# Altium footprint library SparkFun-Resistors.PCBLIB: 38 footprints (part 2 of 3)
Each footprint in its own frame and in the unit in brackets; x right, y up, seen from the top. Pads: shape width x height; smd on the part's side, far side on the other; paste and mask are expansions set on the pad; w line width, h text height; cw(c..) or ccw(c..) is an arc to the next point about the centre after c.
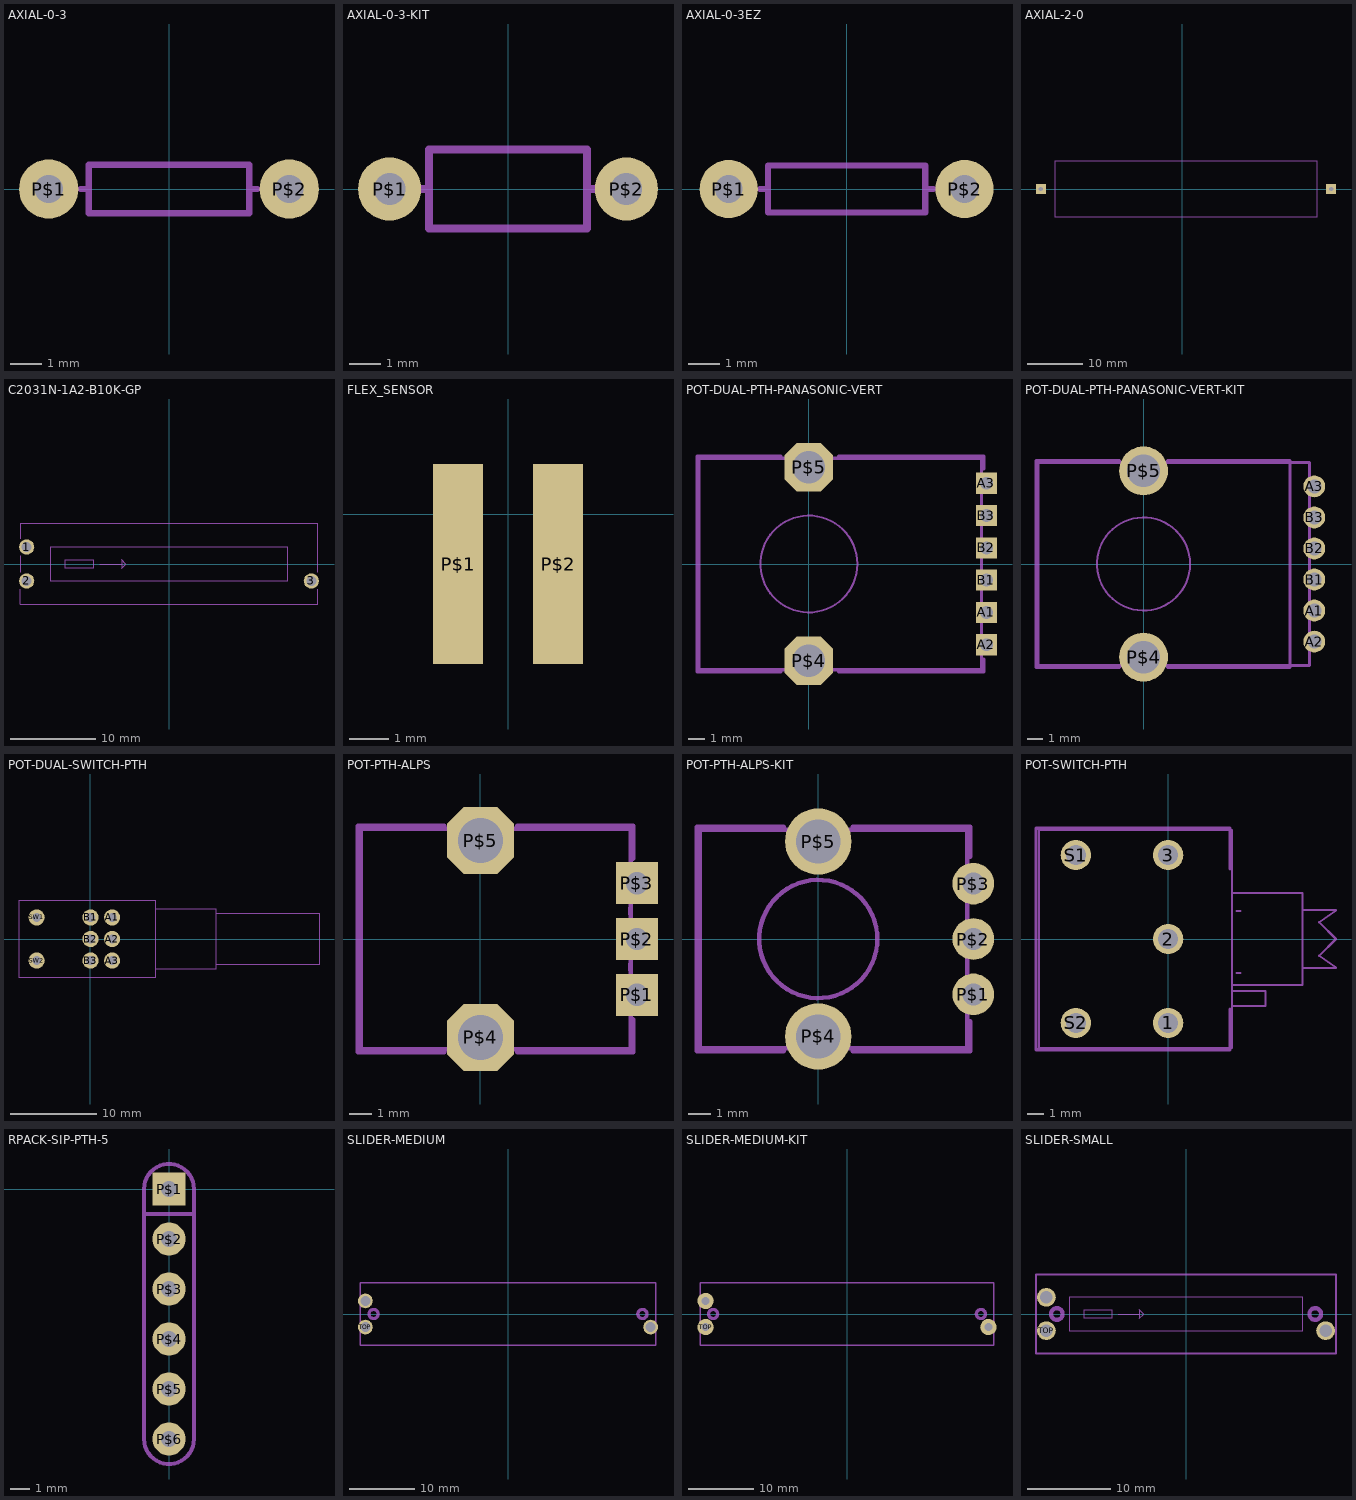
[diagram p1: the footprints below, top view; thin cyan lines are the x and y axes]

## AXIAL-0-3 [mil]
pads (2):
  round 74 hole 35.43: P$1(-150,0) P$2(150,0)
tPlace:
  lines w8: -110,0 -100,0 ; 110,0 100,0 ; -100,0 -100,-30 100,-30 100,0 ; -100,0 -100,30 100,30 100,0

## AXIAL-0-3-KIT [mil]
pads (2):
  round 80 hole 40: P$1(-150,0) P$2(150,0)
Top Solder:
  region: 150.3,-17.2 146.9,-17.28 140.55,-14.82 135.63,-10.13 132.88,-3.9 132.8,-0.5 132.71,3.07 135.28,9.74 140.2,14.91 146.73,17.81 150.3,17.9 153.82,17.84 160.28,15.04 165.18,9.97 167.76,3.42 167.7,-0.1 167.67,-3.53 164.99,-9.85 160.09,-14.66 153.73,-17.23 150.3,-17.2
  region: -150,-17.5 -153.4,-17.58 -159.75,-15.12 -164.67,-10.43 -167.42,-4.2 -167.5,-0.8 -167.59,2.77 -165.02,9.44 -160.1,14.61 -153.57,17.51 -150,17.6 -146.48,17.54 -140.02,14.74 -135.12,9.67 -132.54,3.12 -132.6,-0.4 -132.63,-3.83 -135.31,-10.15 -140.21,-14.96 -146.57,-17.53 -150,-17.5
Bottom Solder:
  region: 150.4,-37.2 146.75,-37.25 139.56,-35.92 132.77,-33.21 126.64,-29.24 121.4,-24.14 117.26,-18.12 114.37,-11.4 112.85,-4.25 112.8,-0.6 112.76,3.14 114.13,10.49 116.9,17.43 120.98,23.69 126.21,29.04 132.37,33.27 139.25,36.21 146.56,37.76 150.3,37.8 154.04,37.75 161.35,36.18 168.21,33.22 174.37,28.98 179.58,23.61 183.64,17.34 186.4,10.39 187.75,3.04 187.7,-0.7 187.66,-4.33 186.17,-11.45 183.31,-18.13 179.21,-24.14 174.01,-29.22 167.93,-33.19 161.18,-35.9 154.03,-37.24 150.4,-37.2
  region: -149.9,-37.5 -153.55,-37.55 -160.74,-36.22 -167.53,-33.51 -173.66,-29.54 -178.9,-24.44 -183.04,-18.42 -185.93,-11.7 -187.45,-4.55 -187.5,-0.9 -187.54,2.84 -186.17,10.19 -183.4,17.13 -179.32,23.39 -174.09,28.74 -167.93,32.97 -161.05,35.91 -153.74,37.46 -150,37.5 -146.26,37.45 -138.95,35.88 -132.09,32.92 -125.93,28.68 -120.72,23.31 -116.66,17.04 -113.9,10.09 -112.55,2.74 -112.6,-1 -112.64,-4.63 -114.13,-11.75 -116.99,-18.43 -121.09,-24.44 -126.29,-29.52 -132.37,-33.49 -139.12,-36.2 -146.27,-37.54 -149.9,-37.5
tPlace:
  lines w10: -110,0 -100,0 ; 110,0 100,0 ; -100,0 -100,-50 100,-50 100,0 ; -100,0 -100,50 100,50 100,0

## AXIAL-0-3EZ [mil]
pads (2):
  round 74 hole 35.43: P$1(-150,0) P$2(150,0)
Top Solder:
  circle w0: c-150,0 r20
  circle w0: c150,0 r20.62
Bottom Solder:
  circle w0: c-150,0 r40.31
  circle w0: c150,0 r41.23
tPlace:
  lines w8: -110,0 -100,0 ; 110,0 100,0 ; -100,0 -100,-30 100,-30 100,0 ; -100,0 -100,30 100,30 100,0

## AXIAL-2-0 [mil]
pads (2):
  rect 70x70 / inner round 64.67 / far side rect 70x70 hole 31.5: P$1(-1000,0) P$2(1050,0)
tPlace:
  lines w5: -900,-200 -900,200 950,200 950,-200 -900,-200

## C2031N-1A2-B10K-GP [mm]
pads (3):
  round 1.8 hole 1.2: 1(-16.75,2) 2(-16.75,-2) 3(16.75,-2)
tPlace:
  lines w0.127: -17.5,-3 -17.5,-4.75 17.5,-4.75 17.5,-3 ; -17.5,-1 -17.5,1 ; -17.5,3 -17.5,4.75 17.5,4.75 17.5,-1 ; -14,-2 -14,2 14,2 14,-2 -14,-2
Document:
  lines w0.127: -8.128,0 -5.588,0 ; -5.588,0 -5.588,-0.508 -5.08,0 -5.588,0.508 -5.588,0 ; -12.192,-0.508 -8.89,-0.508 -8.89,0.508 -12.192,0.508 -12.192,-0.508

## FLEX_SENSOR [mm]
pads (2):
  rect 1.27x5.08 smd: P$1(-1.27,-1.27) P$2(1.27,-1.27)

## POT-DUAL-PTH-PANASONIC-VERT [mil]
pads (8):
  rect 51.5x51.5 / inner round 47.58 / far side rect 51.5x51.5 hole 31.5: A1(433.07,-118.11) A2(433.07,-196.85) A3(433.07,196.85) B1(433.07,-39.37) B2(433.07,39.37) B3(433.07,118.11)
  oct 118.11x118.11 / inner round 109.12 / far side oct 118.11x118.11 hole 78.74: P$4(0,-236.22) P$5(0,236.22)
tDocu:
  circle w5: c0,0 r118.11
  lines w8: -267.72,-257.87 421.26,-257.87 421.26,257.87 -267.72,257.87 -267.72,-257.87
tPlace:
  circle w5: c0,0 r118.11
  lines w8: -68.74,-262.87 -272.72,-262.87 -272.72,262.87 -68.74,262.87 ; 72.28,-262.87 426.26,-262.87 426.26,-232.13 ; 72.28,262.87 426.26,262.87 426.26,232.13

## POT-DUAL-PTH-PANASONIC-VERT-KIT [mm]
pads (8):
  round 1.408 hole 0.9: A1(11,-3) A2(11,-5) A3(11,5) B1(11,-1) B2(11,1) B3(11,3)
  round 3.15 hole 2.1: P$4(0,-6) P$5(0,6)
Top Solder:
  circle w0: c0,6 r1.05
  circle w0: c0,-6 r1.05
  circle w0: c11,5 r0.45
  circle w0: c11,3 r0.45
  circle w0: c11,1 r0.45
  circle w0: c11,-1 r0.45
  circle w0: c11,-3 r0.45
  circle w0: c11,-5 r0.45
Bottom Solder:
  drawing of 8 lines, arcs and shapes, not listed
tDocu:
  circle w0.127: c0,0 r3
  lines w0.203: -6.8,-6.55 10.7,-6.55 10.7,6.55 -6.8,6.55 -6.8,-6.55
tPlace:
  circle w0.127: c0,0 r3
  lines w0.203: -1.55,-6.677 -6.927,-6.677 -6.927,6.677 -1.55,6.677 ; 1.55,-6.677 9.43,-6.677 9.43,6.677 1.55,6.677

## POT-DUAL-SWITCH-PTH [mil]
pads (8):
  round 74 hole 39.37: A1(100,98.43) A2(100,0) A3(100,-98.43) B1(1.57,98.43) B2(1.57,0) B3(1.57,-98.43) SW1(-244.49,98.43) SW2(-244.49,-98.43)
tDocu:
  lines w5: 296.85,-137.8 572.44,-137.8 572.44,-118.11 ; 296.85,137.8 572.44,137.8 572.44,118.11 ; 572.44,-118.11 572.44,118.11 ; 572.44,-118.11 1044.88,-118.11 1044.88,118.11 572.44,118.11
tPlace:
  lines w5: -325.2,-177.17 296.85,-177.17 296.85,177.17 -325.2,177.17 -325.2,-177.17

## POT-PTH-ALPS [mm]
pads (5):
  rect 1.88x1.88 / inner round 1.737 / far side rect 1.88x1.88 hole 1: P$1(7,-2.5) P$2(7,0) P$3(7,2.5)
  oct 3x3 / inner round 2.772 / far side oct 3x3 hole 2: P$4(0,-4.4) P$5(0,4.4)
tDocu:
  lines w0.203: -5.346,-4.93 6.73,-4.93 6.73,4.93 -5.346,4.93 -5.346,-4.93
tPlace:
  lines w0.203: -1.625,-5.057 -5.473,-5.057 -5.473,5.057 -1.625,5.057 ; 1.639,-5.057 6.827,-5.057 ; 1.64,5.057 6.827,5.057 6.827,3.6 ; 6.7,-1.4 6.7,-1.1 ; 6.7,1.1 6.7,1.4 ; 6.827,-5.027 6.827,-3.6

## POT-PTH-ALPS-KIT [mm]
pads (5):
  round 1.88 hole 1: P$1(7,-2.5) P$2(7,0) P$3(7,2.5)
  round 3 hole 2: P$4(0,-4.4) P$5(0,4.4)
Top Solder:
  circle w0: c0,4.4 r1
  circle w0: c0,-4.4 r1
  circle w0: c7,2.5 r0.5
  circle w0: c7,0 r0.5
  circle w0: c7,-2.5 r0.5
Bottom Solder:
  circle w0: c0,-4.4 r1.626
  circle w0: c7,2.5 r1.067
  circle w0: c7,0 r1.067
  circle w0: c7,-2.5 r1.067
  circle w0: c0,4.4 r1.626
tDocu:
  lines w0.203: -5.346,-4.93 6.73,-4.93 6.73,4.93 -5.346,4.93 -5.346,-4.93
tPlace:
  circle w0.203: c0,0 r2.667
  lines w0.203: -1.55,-5.057 -5.473,-5.057 -5.473,5.057 -1.55,5.057 ; 1.55,-5.057 6.857,-5.057 6.857,-3.706 ; 1.55,5.057 6.857,5.057 6.857,3.706

## POT-SWITCH-PTH [mm]
pads (5):
  round 1.8 hole 1.2: 1(0,-5) 2(0,0) 3(0,5) S1(-5.5,5) S2(-5.5,-5)
tDocu:
  lines w0.127: 4.064,-2.016 4.318,-2.016 ; 4.064,1.667 4.318,1.667 ; 10,-1.73 8,-1.73 ; 10,-1.7 9,-1 10,0 9,1 10,1.7 ; 10,1.73 8,1.73 ; 3.8,-4 3.8,-3.1 ; 3.8,-4 3.8,-6.5 -7.7,-6.5 -7.7,6.5 3.8,6.5 3.8,2.73 ; 3.8,-4 5.8,-4 5.8,-3.1 3.8,-3.1 ; 3.8,-3.1 3.8,-2.73 ; 3.8,-2.73 3.8,2.73 ; 3.8,-2.73 8,-2.73 8,-1.73 ; 3.8,2.73 8,2.73 8,1.73 ; 8,-1.73 8,1.73
  text "mounting surface" at 4.699,-2.27 h0.63
  text "*2.8mm diameter x 2mm tab at 9 o'clock (from front)" at 6.28,-3.72 h0.63
tPlace:
  lines w0.203: 3.683,-4.191 3.683,-6.604 -7.874,-6.604 -7.874,6.604 3.683,6.604 3.683,4.191

## RPACK-SIP-PTH-5 [mil]
pads (6):
  rect 66x66 / inner round 60.98 / far side rect 66x66 hole 31.5: P$1(0,0)
  round 66 hole 31.5: P$2(0,-100) P$3(0,-200) P$4(0,-300) P$5(0,-400) P$6(0,-500)
tPlace:
  lines w8: -50,-50 -50,0 cw(c0,0) 50,0 50,-50 ; -50,-50 -50,-500 ccw(c0,-500) 50,-500 50,-50 ; -50,-50 50,-50

## SLIDER-MEDIUM [mm]
pads (3):
  round 2.25 hole 1.5: BOTTOM(21.75,-2) TOP(-21.75,-2) WIPER(-21.75,2)
tPlace:
  circle w0.5: c-20.5,0 r0.7
  circle w0.5: c20.5,0 r0.7
  lines w0.203: -22.5,-4.75 22.5,-4.75 22.5,4.75 -22.5,4.75 -22.5,-4.75

## SLIDER-MEDIUM-KIT [mm]
pads (3):
  round 2.5 hole 1.2: BOTTOM(21.65,-2) TOP(-21.65,-2) WIPER(-21.65,2)
Top Solder:
  circle w0: c-21.65,2 r0.6
  circle w0: c-21.65,-2 r0.6
  circle w0: c21.65,-2 r0.6
Bottom Solder:
  circle w0: c-21.65,2 r1.315
  circle w0: c-21.65,-2 r1.315
  circle w0: c21.65,-2 r1.315
tDocu:
  region: -22,1.5 -22,2.5 -21.5,2.5 -21.5,1.5
  region: -22,-2.5 -22,-1.5 -21.5,-1.5 -21.5,-2.5
  region: 21.5,-2.5 21.5,-1.5 22,-1.5 22,-2.5
tPlace:
  circle w0.5: c-20.5,0 r0.7
  circle w0.5: c20.5,0 r0.7
  lines w0.203: -22.5,-4.75 22.5,-4.75 22.5,4.75 -22.5,4.75 -22.5,-4.75

## SLIDER-SMALL [mm]
pads (3):
  round 2.25 hole 1.5: BOTTOM(16.75,-2) TOP(-16.75,-2) WIPER(-16.75,2)
tPlace:
  circle w0.5: c-15.5,0 r0.7
  circle w0.5: c15.5,0 r0.7
  lines w0.127: -14,-2 -14,2 14,2 14,-2 -14,-2
  lines w0.203: -18,-4.75 18,-4.75 18,4.75 -18,4.75 -18,-4.75
Document:
  lines w0.127: -8.128,0 -5.588,0 ; -5.588,0 -5.588,-0.508 -5.08,0 -5.588,0.508 -5.588,0 ; -12.192,-0.508 -8.89,-0.508 -8.89,0.508 -12.192,0.508 -12.192,-0.508